# Altium schematic symbol library Integrated.SchLib: 62 symbols
Pins are listed as number, name and electrical type; pins without a type are passive.

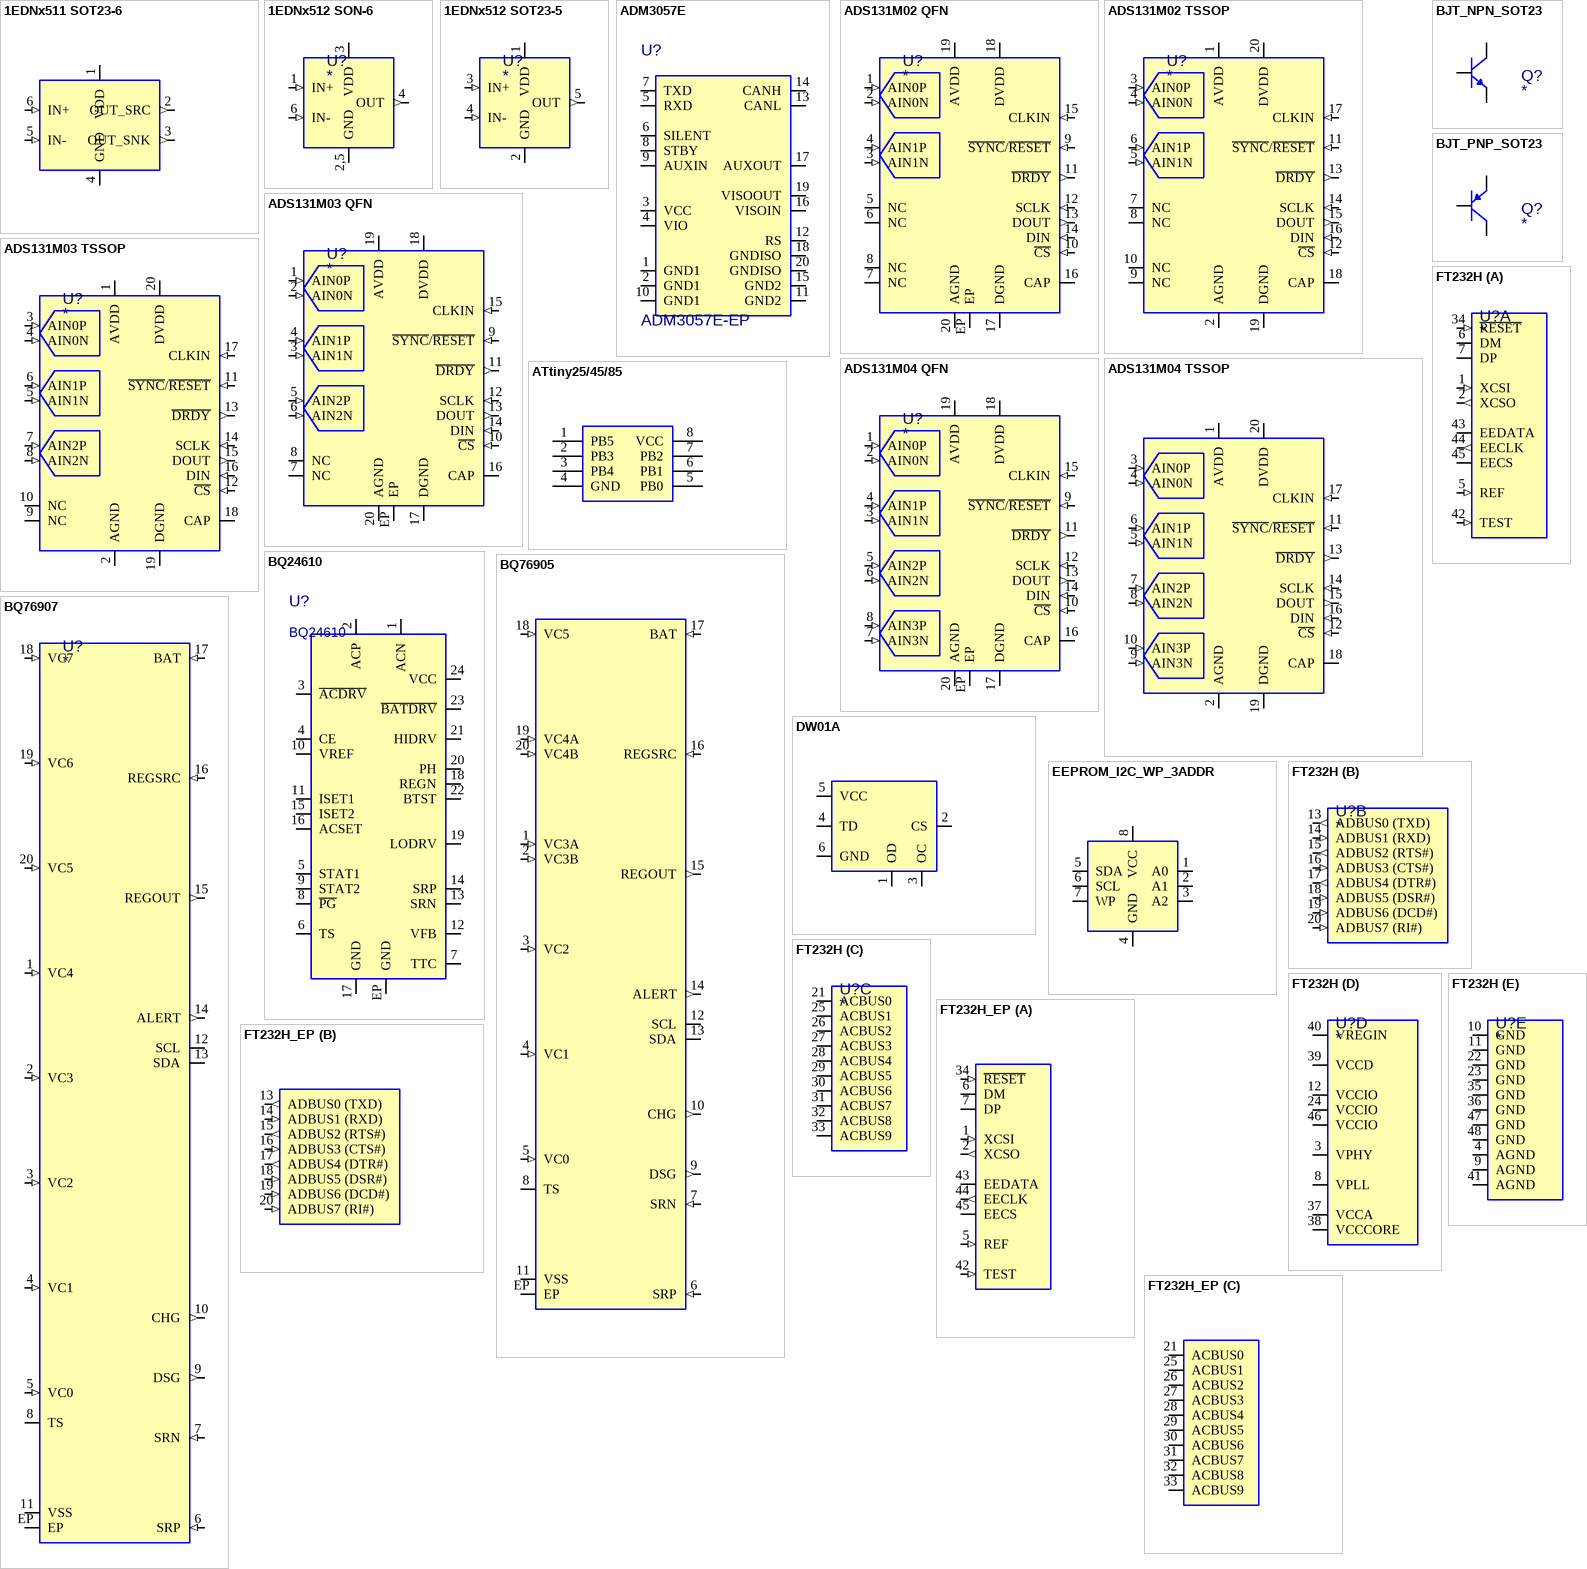
[diagram p0: symbols 1EDNx511 SOT23-6 to FT232H_EP]

## 1EDNx511 SOT23-6
designator U?
pins: 1 VDD, 2 OUT_SRC (out), 3 OUT_SNK (out), 4 GND, 5 IN- (in), 6 IN+ (in)

## 1EDNx512 SON-6
designator U?
pins: 1 IN+ (in), 2,5 GND, 3 VDD, 4 OUT (out), 6 IN- (in)

## 1EDNx512 SOT23-5
designator U?
pins: 1 VDD, 2 GND, 3 IN+ (in), 4 IN- (in), 5 OUT (out)

## ADM3057E
designator U?, comment ADM3057E-EP
3 kV RMS, Signal and Power Isolated, CAN Transceiver for CAN FD
pins: 1 GND1, 2 GND1, 3 VCC, 4 VIO, 5 RXD, 6 SILENT, 7 TXD, 8 STBY, 9 AUXIN, 10 GND1, 11 GND2, 12 RS, 13 CANL, 14 CANH, 15 GND2, 16 VISOIN, 17 AUXOUT, 18 GNDISO, 19 VISOOUT, 20 GNDISO

## ADS131M02 QFN
designator U?
pins: 1 AIN0P (in), 2 AIN0N (in), 3 AIN1N (in), 4 AIN1P (in), 5 NC, 6 NC, 7 NC, 8 NC, 9 ~{SYNC}/~{RESET} (in), 10 ~{CS} (in), 11 ~{DRDY} (out), 12 SCLK (in), 13 DOUT (out), 14 DIN (in), 15 CLKIN (in), 16 CAP, 17 DGND, 18 DVDD, 19 AVDD, 20 AGND, EP

## ADS131M02 TSSOP
designator U?
pins: 1 AVDD, 2 AGND, 3 AIN0P (in), 4 AIN0N (in), 5 AIN1N (in), 6 AIN1P (in), 7 NC, 8 NC, 9 NC, 10 NC, 11 ~{SYNC}/~{RESET} (in), 12 ~{CS} (in), 13 ~{DRDY} (out), 14 SCLK (in), 15 DOUT (out), 16 DIN (in), 17 CLKIN (in), 18 CAP, 19 DGND, 20 DVDD

## ADS131M03 QFN
designator U?
pins: 1 AIN0P (in), 2 AIN0N (in), 3 AIN1N (in), 4 AIN1P (in), 5 AIN2P (in), 6 AIN2N (in), 7 NC, 8 NC, 9 ~{SYNC}/~{RESET} (in), 10 ~{CS} (in), 11 ~{DRDY} (out), 12 SCLK (in), 13 DOUT (out), 14 DIN (in), 15 CLKIN (in), 16 CAP, 17 DGND, 18 DVDD, 19 AVDD, 20 AGND, EP

## ADS131M03 TSSOP
designator U?
pins: 1 AVDD, 2 AGND, 3 AIN0P (in), 4 AIN0N (in), 5 AIN1N (in), 6 AIN1P (in), 7 AIN2P (in), 8 AIN2N (in), 9 NC, 10 NC, 11 ~{SYNC}/~{RESET} (in), 12 ~{CS} (in), 13 ~{DRDY} (out), 14 SCLK (in), 15 DOUT (out), 16 DIN (in), 17 CLKIN (in), 18 CAP, 19 DGND, 20 DVDD

## ADS131M04 QFN
designator U?
pins: 1 AIN0P (in), 2 AIN0N (in), 3 AIN1N (in), 4 AIN1P (in), 5 AIN2P (in), 6 AIN2N (in), 7 AIN3N (in), 8 AIN3P (in), 9 ~{SYNC}/~{RESET} (in), 10 ~{CS} (in), 11 ~{DRDY} (out), 12 SCLK (in), 13 DOUT (out), 14 DIN (in), 15 CLKIN (in), 16 CAP, 17 DGND, 18 DVDD, 19 AVDD, 20 AGND, EP

## ADS131M04 TSSOP
designator U?
pins: 1 AVDD, 2 AGND, 3 AIN0P (in), 4 AIN0N (in), 5 AIN1N (in), 6 AIN1P (in), 7 AIN2P (in), 8 AIN2N (in), 9 AIN3N (in), 10 AIN3P (in), 11 ~{SYNC}/~{RESET} (in), 12 ~{CS} (in), 13 ~{DRDY} (out), 14 SCLK (in), 15 DOUT (out), 16 DIN (in), 17 CLKIN (in), 18 CAP, 19 DGND, 20 DVDD

## ATtiny25/45/85
designator U?
Atmel 8-bit AVR Microcontroller with 2/4/8K Bytes In-System Programmable Flash
pins: 1 PB5, 2 PB3, 3 PB4, 4 GND, 5 PB0, 6 PB1, 7 PB2, 8 VCC

## BJT_NPN_SOT23
designator Q?
pins: 1 BASE, 2 EMITTER, 3 COLLECTOR

## BJT_PNP_SOT23
designator Q?
pins: 1 BASE, 2 EMITTER, 3 COLLECTOR

## BQ24610
designator U?
BQ2461x Stand-Alone 1- to 6-Cell Synchronous Buck Battery Charger Controller
pins: 1 ACN, 2 ACP, 3 ~{ACDRV}, 4 CE, 5 STAT1, 6 TS, 7 TTC, 8 ~{PG}, 9 STAT2, 10 VREF, 11 ISET1, 12 VFB, 13 SRN, 14 SRP, 15 ISET2, 16 ACSET, 17 GND, 18 REGN, 19 LODRV, 20 PH, 21 HIDRV, 22 BTST, 23 ~{BATDRV}, 24 VCC, EP GND

## BQ76905
designator U?
pins: 1 VC3A (in), 2 VC3B (in), 3 VC2 (in), 4 VC1 (in), 5 VC0 (in), 6 SRP (in), 7 SRN (in), 8 TS (io), 9 DSG (out), 10 CHG (out), 11 VSS, 12 SCL (io), 13 SDA (io), 14 ALERT (out), 15 REGOUT (out), 16 REGSRC (in), 17 BAT (in), 18 VC5 (in), 19 VC4A (in), 20 VC4B (in), EP

## BQ76907
designator U?
pins: 1 VC4 (in), 2 VC3 (in), 3 VC2 (in), 4 VC1 (in), 5 VC0 (in), 6 SRP (in), 7 SRN (in), 8 TS (io), 9 DSG (out), 10 CHG (out), 11 VSS, 12 SCL (io), 13 SDA (io), 14 ALERT (out), 15 REGOUT (out), 16 REGSRC (in), 17 BAT (in), 18 VC7 (in), 19 VC6 (in), 20 VC5 (in), EP

## DW01A
designator U?
Single Cell Lithium-ion battery protection IC
pins: 1 OD, 2 CS, 3 OC, 4 TD, 5 VCC, 6 GND

## EEPROM_I2C_WP_3ADDR
designator U?
Generic I2C EEPROM with write protect and three address pins (eq. SO-8)
pins: 1 A0, 2 A1, 3 A2, 4 GND, 5 SDA, 6 SCL, 7 WP, 8 VCC

## FT232H
designator U?
part A pins: 1 XCSI (in), 2 XCSO (out), 5 REF (in), 6 DM (io), 7 DP (io), 34 ~{RESET} (in), 42 TEST (in), 43 EEDATA (io), 44 EECLK (out), 45 EECS (io)
part B pins: 13 ADBUS0 (TXD) (out), 14 ADBUS1 (RXD) (in), 15 ADBUS2 (RTS#) (out), 16 ADBUS3 (CTS#) (in), 17 ADBUS4 (DTR#) (out), 18 ADBUS5 (DSR#) (in), 19 ADBUS6 (DCD#) (in), 20 ADBUS7 (RI#) (in)
part C pins: 21 ACBUS0 (io), 25 ACBUS1 (io), 26 ACBUS2 (io), 27 ACBUS3 (io), 28 ACBUS4 (io), 29 ACBUS5 (io), 30 ACBUS6 (io), 31 ACBUS7 (io), 32 ACBUS8 (io), 33 ACBUS9 (io)
part D pins: 3 VPHY, 8 VPLL, 12 VCCIO, 24 VCCIO, 37 VCCA, 38 VCCCORE, 39 VCCD, 40 VREGIN, 46 VCCIO
part E pins: 4 AGND, 9 AGND, 10 GND, 11 GND, 22 GND, 23 GND, 35 GND, 36 GND, 41 AGND, 47 GND, 48 GND

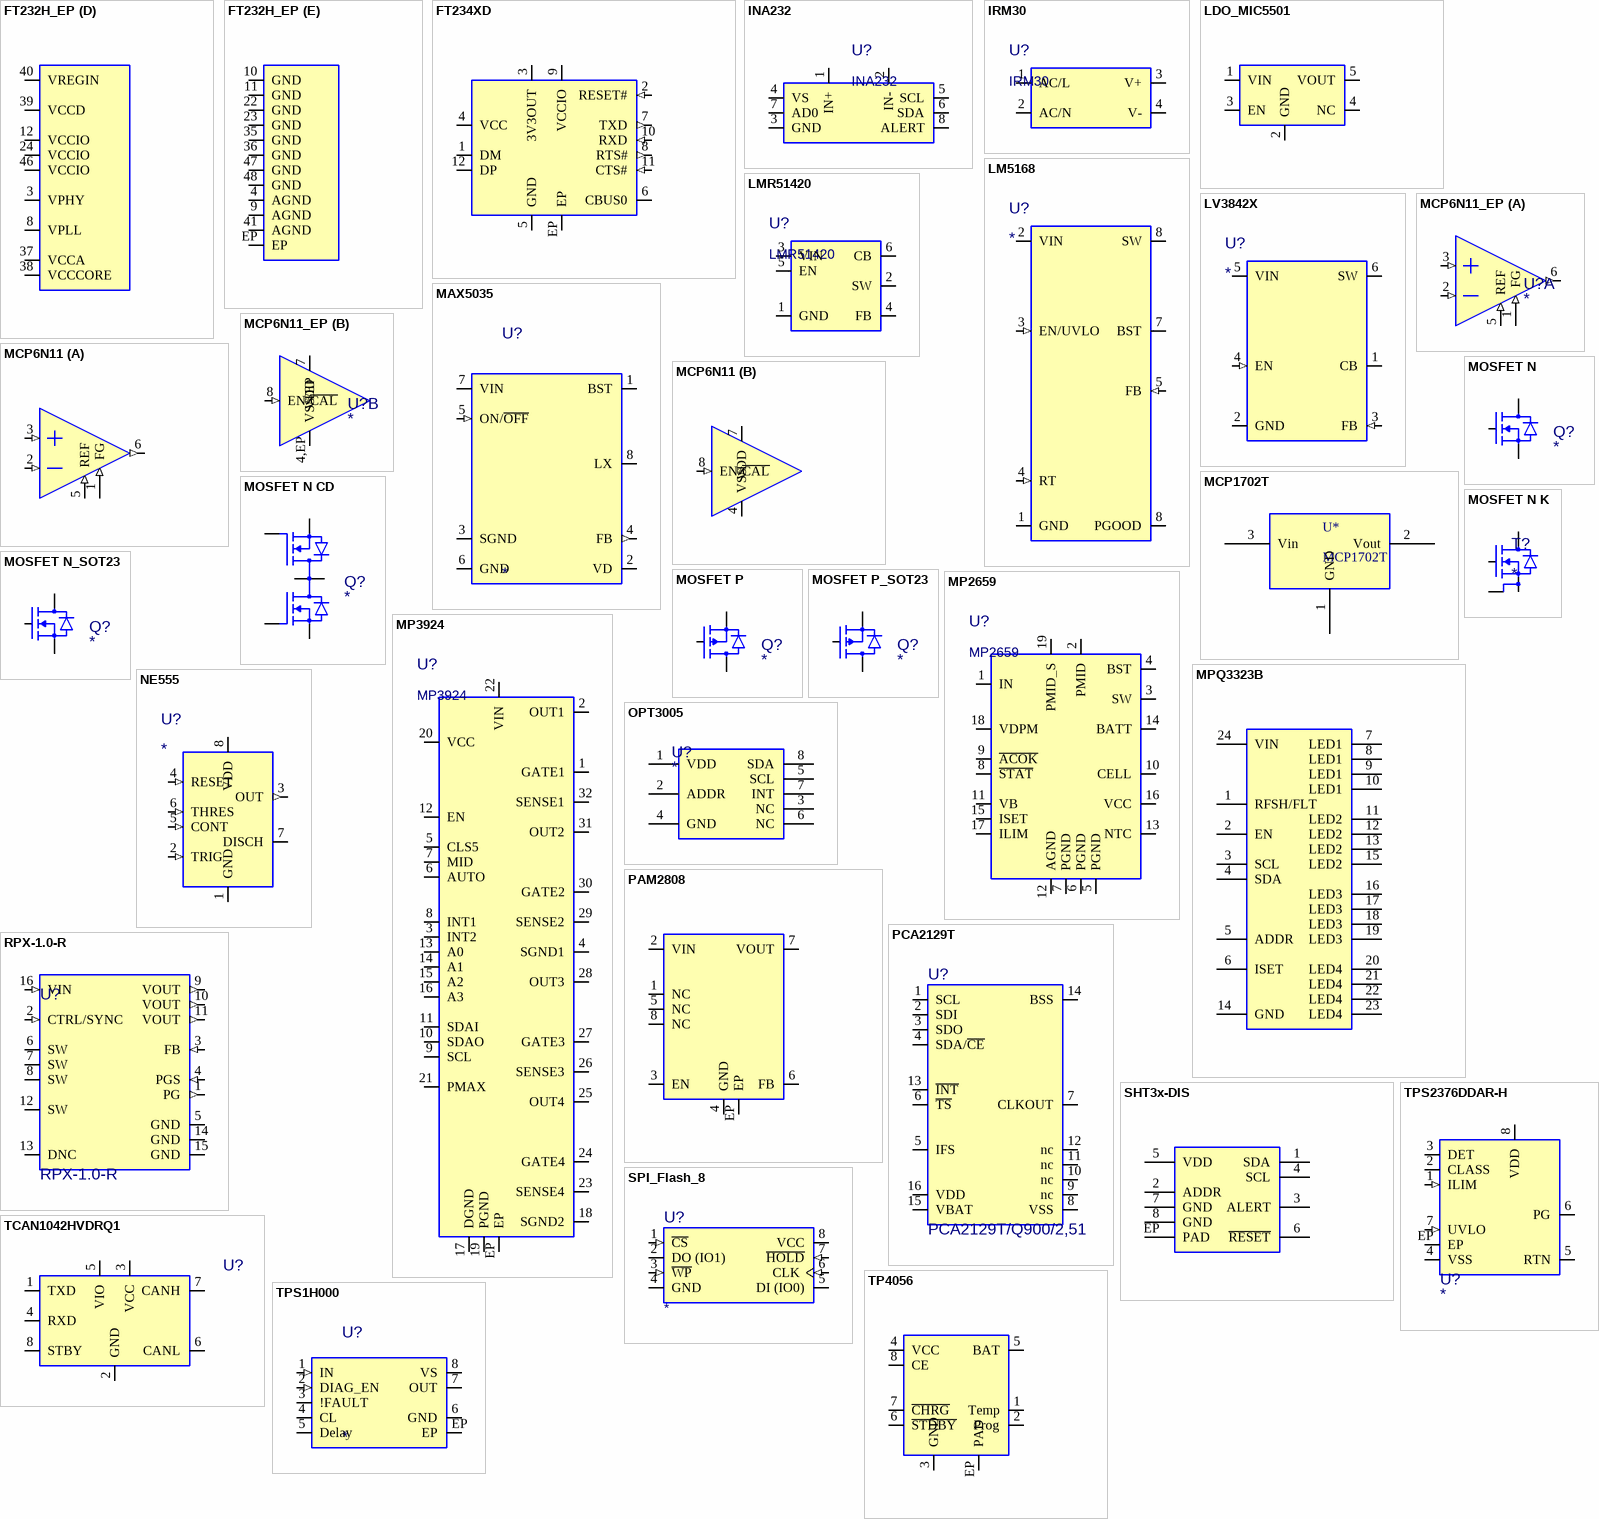
[diagram p1: symbols FT232H_EP to TPS2376DDAR-H]

## FT232H_EP
designator U?
part A pins: 1 XCSI (in), 2 XCSO (out), 5 REF (in), 6 DM (io), 7 DP (io), 34 ~{RESET} (in), 42 TEST (in), 43 EEDATA (io), 44 EECLK (out), 45 EECS (io)
part B pins: 13 ADBUS0 (TXD) (out), 14 ADBUS1 (RXD) (in), 15 ADBUS2 (RTS#) (out), 16 ADBUS3 (CTS#) (in), 17 ADBUS4 (DTR#) (out), 18 ADBUS5 (DSR#) (in), 19 ADBUS6 (DCD#) (in), 20 ADBUS7 (RI#) (in)
part C pins: 21 ACBUS0 (io), 25 ACBUS1 (io), 26 ACBUS2 (io), 27 ACBUS3 (io), 28 ACBUS4 (io), 29 ACBUS5 (io), 30 ACBUS6 (io), 31 ACBUS7 (io), 32 ACBUS8 (io), 33 ACBUS9 (io)
part D pins: 3 VPHY, 8 VPLL, 12 VCCIO, 24 VCCIO, 37 VCCA, 38 VCCCORE, 39 VCCD, 40 VREGIN, 46 VCCIO
part E pins: 4 AGND, 9 AGND, 10 GND, 11 GND, 22 GND, 23 GND, 35 GND, 36 GND, 41 AGND, 47 GND, 48 GND, EP

## FT234XD
designator U?
pins: 1 DM (io), 2 RESET# (in), 3 3V3OUT, 4 VCC, 5 GND, 6 CBUS0 (io), 7 TXD (out), 8 RTS# (out), 9 VCCIO, 10 RXD (in), 11 CTS# (in), 12 DP (io), EP

## INA232
designator U?
pins: 1 IN+, 2 IN-, 3 GND, 4 VS, 5 SCL, 6 SDA, 7 AD0, 8 ALERT

## IRM30
designator U?
30W AC-DC PCB-Mount Green Power Module
pins: 1 AC/L, 2 AC/N, 3 V+, 4 V-

## LDO_MIC5501
designator U?
pins: 1 VIN, 2 GND, 3 EN, 4 NC, 5 VOUT

## LM5168
designator U?
Step-Down Converter
pins: 1 GND, 2 VIN, 3 EN/UVLO (in), 4 RT (in), 5 FB (in), 7 BST, 8 SW, 8 PGOOD

## LMR51420
designator U?
SIMPLE SWITCHER® power converter 4.5-V to 36-V, 2-A, synchronous buck with 40-µA IQ
pins: 1 GND, 2 SW, 3 VIN, 4 FB, 5 EN, 6 CB

## LV3842X
designator U?
Step-Down Converter
pins: 1 CB, 2 GND, 3 FB (in), 4 EN (in), 5 VIN, 6 SW

## MAX5035
designator U?
pins: 1 BST, 2 VD (power), 3 SGND (power), 4 FB (out), 5 ON/~{OFF} (in), 6 GND (power), 7 VIN (power), 8 LX

## MCP6N11
designator U?
part A pins: 1 FG (in), 2 - (in), 3 + (in), 5 REF (in), 6 Out (out)
part B pins: 4 VSS, 7 VDD, 8 EN/~{CAL} (in)

## MCP6N11_EP
designator U?
part A pins: 1 FG (in), 2 - (in), 3 + (in), 5 REF (in), 6 Out (out)
part B pins: 4,EP VSS/EP, 7 VDD, 8 EN/~{CAL} (in)

## MCP1702T
designator U*
LDO with 250mA output current
pins: 1 GND, 2 Vout, 3 Vin

## MOSFET N
designator Q?
pins: D DRAIN, G GATE, S SOURCE

## MOSFET N CD
designator Q?
pins: 1 SOURCE1, 2 DRAIN, 3 SOURCE2, 4 GATE2, 5 DRAIN, 6 GATE1

## MOSFET N K
designator T?
pins: D, G, K, S

## MOSFET N_SOT23
designator Q?
pins: 1 GATE, 2 SOURCE, 3 DRAIN

## MOSFET P
designator Q?
pins: D DRAIN, G GATE, S SOURCE

## MOSFET P_SOT23
designator Q?
pins: 1 GATE, 2 SOURCE, 3 DRAIN

## MP2659
designator U?
36V SWITCHING CHARGER FOR 3-CELL TO 6-CELL BATTERY
pins: 1 IN, 2 PMID, 3 SW, 4 BST, 5 PGND, 6 PGND, 7 PGND, 8 ~{STAT}, 9 ~{ACOK}, 10 CELL, 11 VB, 12 AGND, 13 NTC, 14 BATT, 15 ISET, 16 VCC, 17 ILIM, 18 VDPM, 19 PMID_S

## MP3924
designator U?
Quad-Port, IEEE 802.3af/at PSE Controller for Power over Ethernet
pins: 1 GATE1, 2 OUT1, 3 INT2, 4 SGND1, 5 CLS5, 6 AUTO, 7 MID, 8 INT1, 9 SCL, 10 SDAO, 11 SDAI, 12 EN, 13 A0, 14 A1, 15 A2, 16 A3, 17 DGND, 18 SGND2, 19 PGND, 20 VCC, 21 PMAX, 22 VIN, 23 SENSE4, 24 GATE4, 25 OUT4, 26 SENSE3, 27 GATE3, 28 OUT3, 29 SENSE2, 30 GATE2, 31 OUT2, 32 SENSE1, EP

## MPQ3323B
designator U?
4-Channel, 320mA/Ch, LED Driver with Separated PWM/Analog Dimming and I2C Interface, AEC-Q100 Qualified
pins: 1 RFSH/FLT, 2 EN, 3 SCL, 4 SDA, 5 ADDR, 6 ISET, 7 LED1, 8 LED1, 9 LED1, 10 LED1, 11 LED2, 12 LED2, 13 LED2, 14 GND, 15 LED2, 16 LED3, 17 LED3, 18 LED3, 19 LED3, 20 LED4, 21 LED4, 22 LED4, 23 LED4, 24 VIN

## NE555
designator U?
pins: 1 GND, 2 TRIG (in), 3 OUT (out), 4 RESET (in), 5 CONT (in), 6 THRES (in), 7 DISCH (oc), 8 VDD

## OPT3005
designator U?
Ambient Light Sensor (ALS) for Video Surveillance Cameras
pins: 1 VDD, 2 ADDR, 3 NC, 4 GND, 5 SCL, 6 NC, 7 INT, 8 SDA

## PAM2808
designator U?
pins: 1 NC, 2 VIN, 3 EN, 4 GND, 5 NC, 6 FB, 7 VOUT, 8 NC, EP

## PCA2129T
designator U?, comment PCA2129T/Q900/2,51
NXP PCA2129T/Q900/2,51 REAL TIME CLOCK/CALENDAR, BINARY, SOIC16, RTC; ComponentLink1Description: Datasheet; ComponentLink1URL: https://www.nxp.com/docs/en/data-sheet/PCA2129.pdf
pins: 1 SCL, 2 SDI, 3 SDO, 4 SDA/~{CE}, 5 IFS, 6 ~{TS}, 7 CLKOUT, 8 VSS, 9 nc, 10 nc, 11 nc, 12 nc, 13 ~{INT}, 14 BSS, 15 VBAT, 16 VDD

## RPX-1.0-R
designator U?
1A DC/DC-CONVERTER 'INNOLINE' SM
pins: 1 PG (out), 2 CTRL/SYNC (in), 3 FB (in), 4 PGS (in), 5 GND (power), 6 SW, 7 SW, 8 SW, 9 VOUT (out), 10 VOUT (out), 11 VOUT (out), 12 SW, 13 DNC, 14 GND (power), 15 GND (power), 16 VIN (in)

## SHT3x-DIS
designator U?
Humidity and Temperature Sensor
pins: 1 SDA, 2 ADDR, 3 ALERT, 4 SCL, 5 VDD, 6 ~{RESET}, 7 GND, 8 GND, EP PAD

## SPI_Flash_8
designator U?
pins: 1 ~{CS} (in) "Chip Select Input.", 2 DO (IO1) (io) "Data Input / Output", 3 ~{WP} (in) "Write Protect Input", 4 GND (power) "Ground", 5 DI (IO0) (io) "Data Input / Output", 6 CLK (in) "Serial Clock Input", 7 ~{HOLD} (in) "Hold Input", 8 VCC (power) "Power Supply"

## TCAN1042HVDRQ1
designator U?
SMT CAN Transceiver  SO-8
pins: 1 TXD, 2 GND, 3 VCC, 4 RXD, 5 VIO, 6 CANL, 7 CANH, 8 STBY

## TP4056
designator U?
1A Standalone Linear Li-lon Battery Charger with Thermal / Regulation in SOP-8
pins: 1 Temp, 2 Prog, 3 GND, 4 VCC, 5 BAT, 6 ~{STDBY}, 7 ~{CHRG}, 8 CE, EP PAD

## TPS1H000
designator U?
TPS1H000-Q1 40-V, 1-Ω, Single-Channel Smart High-Side Switch
pins: 1 IN (in), 2 DIAG_EN (in), 3 !FAULT (oc), 4 CL, 5 Delay, 6 GND (power), 7 OUT (power), 8 VS (power), EP

## TPS2376DDAR-H
designator U?
pins: 1 ILIM (in) "Connect a resistor from ILIM to VSS to set the start-up inrush current limit. The equation for calculating the resistor is shown in the detailed pin description section for ILIM.", 2 CLASS "Connect a resistor from CLASS to VSS to set the classification of the powered device(PD). The IEEE classification levels and corresponding resistor values are shown in Table 1.", 3 DET "Connect a 24.9-kohm detection resistor from DET to VDD.", 4 VSS (power) "Return line on the source side of the TPS2376-H from the PSE.", 5 RTN "Switched output side return line used as the low-side reference for the TPS2376-H load.", 6 PG (hiz) "Open-drain, power-good output, active high, referenced to RTN.", 7 UVLO (in) "UVLO comparator input that controls pass-device turn-on and off. Connect UVLO to a resistor divider from VDD to VSS.", 8 VDD (power) "Positive line from the rectified PSE provided input.", EP (power) "The PowerPad must be connected to VSS. The VSS copper on the circuit board must be a large fill area to assist in heat dissipation."

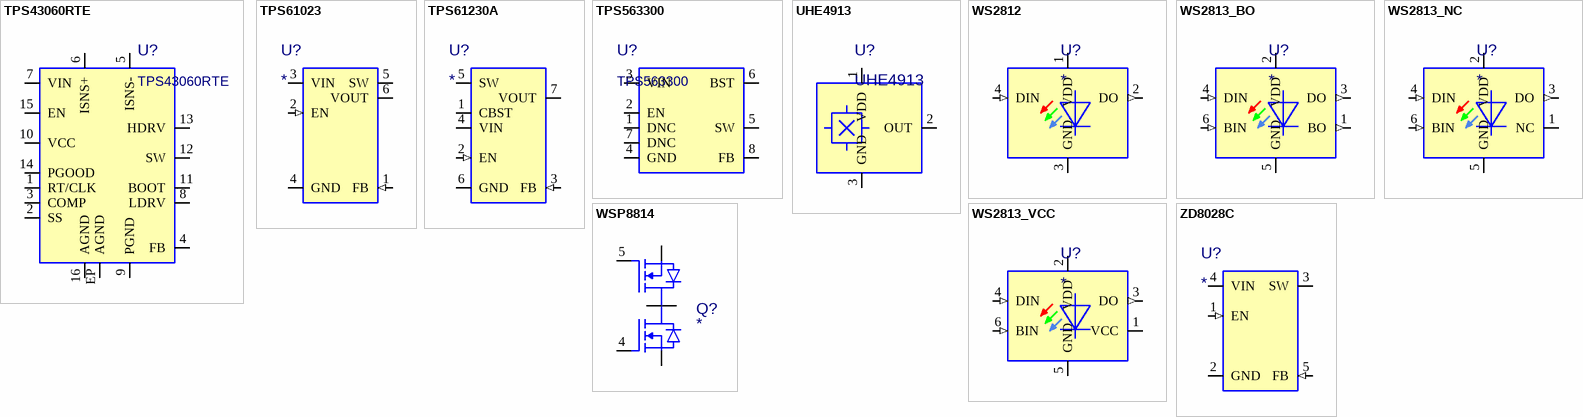
[diagram p2: symbols TPS43060RTE to ZD8028C]

## TPS43060RTE
designator U?
TPS4306x Low Quiescent Current Synchronous Boost DC-DC Controller With Wide VIN Range
pins: 1 RT/CLK, 2 SS, 3 COMP, 4 FB, 5 ISNS-, 6 ISNS+, 7 VIN, 8 LDRV, 9 PGND, 10 VCC, 11 BOOT, 12 SW, 13 HDRV, 14 PGOOD, 15 EN, 16 AGND, EP AGND

## TPS61023
designator U?
pins: 1 FB (in), 2 EN (in), 3 VIN, 4 GND, 5 SW, 6 VOUT

## TPS61230A
designator U?
pins: 1 CBST, 2 EN (in), 3 FB (in), 4 VIN, 5 SW, 6 GND, 7 VOUT

## TPS563300
designator U?
3.8-V to 28-V, 3-A Synchronous Buck Converter in SOT583 Package
pins: 1 DNC, 2 EN, 3 VIN, 4 GND, 5 SW, 6 BST, 7 DNC, 8 FB

## UHE4913
designator U?
LOW POWER HALL EFFECT / SWITCH
pins: 1 VDD, 2 OUT (oc), 3 GND

## WS2812
designator U?
Intelligent control integrated LED light source
pins: 1 VDD, 2 DO (out), 3 GND, 4 DIN (in)

## WS2813_BO
designator U?
Intelligent control integrated LED light source
pins: 1 BO (out), 2 VDD, 3 DO (out), 4 DIN (in), 5 GND, 6 BIN (in)

## WS2813_NC
designator U?
Intelligent control integrated LED light source
pins: 1 NC, 2 VDD, 3 DO (out), 4 DIN (in), 5 GND, 6 BIN (in)

## WS2813_VCC
designator U?
Intelligent control integrated LED light source
pins: 1 VCC, 2 VDD, 3 DO (out), 4 DIN (in), 5 GND, 6 BIN (in)

## WSP8814
designator Q?
MOSFET Common Drain
pins: 1 D, 2 S1, 3 S1, 4 G1, 5 G2, 6 S2, 7 S2, 8 D

## ZD8028C
designator U?
pins: 1 EN (in), 2 GND, 3 SW, 4 VIN, 5 FB (in)